# Altium schematic symbol library SAMTEC_TSW.SchLib: 5 symbols
Pins are listed as number, name and electrical type; pins without a type are passive.

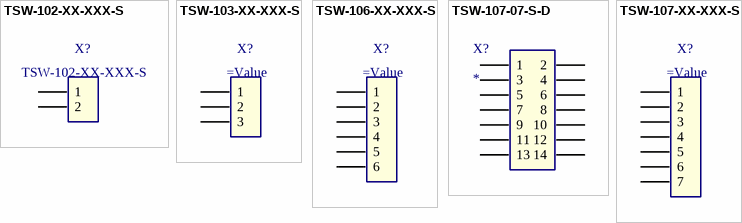
[diagram p0: symbols TSW-102-XX-XXX-S to TSW-107-XX-XXX-S]

## TSW-102-XX-XXX-S
designator X?
.025[0.64] SQ. POST TERMINAL STRIP ASSEMBLY.; MANUFACTURER: SAMTEC; CREATED BY: May 18, 2016 - Wendy Xin; PCB DECAL: TSW-102-XX-XXX-S
footprint TSW-102-XX-XXX-S
pins: 1, 2

## TSW-103-XX-XXX-S
designator X?
.025[0.64] SQ. POST TERMINAL STRIP ASSEMBLY.; Manufacturer: SAMTEC; Manufacturer Part Number: TSW-103-07-F-S; Created: 2020_11_26_AGeiger; Value: ='Manufacturer Part Number'
footprint TSW-103-XX-XXX-S (Footprint not found)
pins: 1, 2, 3

## TSW-106-XX-XXX-S
designator X?
.025[0.64] SQ. POST TERMINAL STRIP ASSEMBLY.; MPN: TSW-106-07-F-S; MF: SAMTEC; Value: TSW-106-07-F-S; Created: 2020_12_15_AGeiger
footprint TSW-106-XX-XXX-S
pins: 1, 2, 3, 4, 5, 6

## TSW-107-07-S-D
designator X?
.025[0.64] SQ. POST TERMINAL STRIP ASSEMBLY.
pins: 1, 2, 3, 4, 5, 6, 7, 8, 9, 10, 11, 12, 13, 14

## TSW-107-XX-XXX-S
designator X?
.025[0.64] SQ. POST TERMINAL STRIP ASSEMBLY.; MPN: TSW-106-07-F-S; MF: SAMTEC; Value: TSW-106-07-F-S; Created: 2020_12_15_AGeiger
footprint TSW-106-XX-XXX-S
pins: 1, 2, 3, 4, 5, 6, 7